# EAGLE library part SN74AVC4T774RSVR (library til-level-shifter)
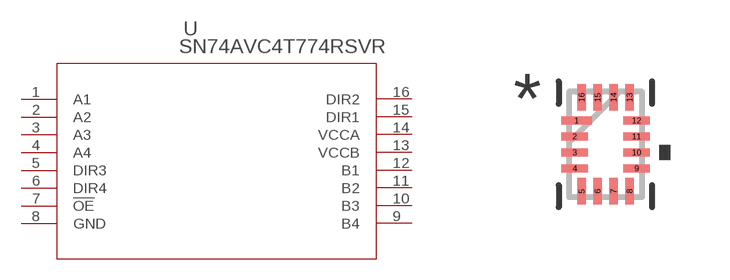
[diagram p0: symbol with the pads of RSV16; footprint RSV16]

Designator prefix U

## SN74AVC4T774RSVR (MANUFACTURER_PART_NUMBER: SN74AVC4T774RSVR; VENDOR: Texas Instruments)  [RSV16]
1  A1
2  A2
3  A3
4  A4
5  DIR3  in
6  DIR4  in
7  !OE  in
8  GND  pwr
9  B4
10  B3
11  B2
12  B1
13  VCCB  pwr
14  VCCA  pwr
15  DIR1  in
16  DIR2  in

## Footprint RSV16 (pad centres in mm)
smd 0.762 x 0.203: 1 -0.724,0.6
smd 0.66 x 0.203: 2 -0.775,0.2; 3 -0.775,-0.2; 4 -0.775,-0.6; 9 0.775,-0.6; 10 0.775,-0.2; 11 0.775,0.2; 12 0.775,0.6
smd 0.203 x 0.66: 5 -0.6,-1.175; 6 -0.2,-1.175; 7 0.2,-1.175; 8 0.6,-1.175; 13 0.6,1.175; 14 0.2,1.175; 15 -0.2,1.175; 16 -0.6,1.175